# Altium footprint library GE.PcbLib: 21 footprints (part 2 of 2)
Each footprint in its own frame and in the unit in brackets; x right, y up, seen from the top. Pads: shape width x height; smd on the part's side, far side on the other; paste and mask are expansions set on the pad; w line width, h text height; cw(c..) or ccw(c..) is an arc to the next point about the centre after c.
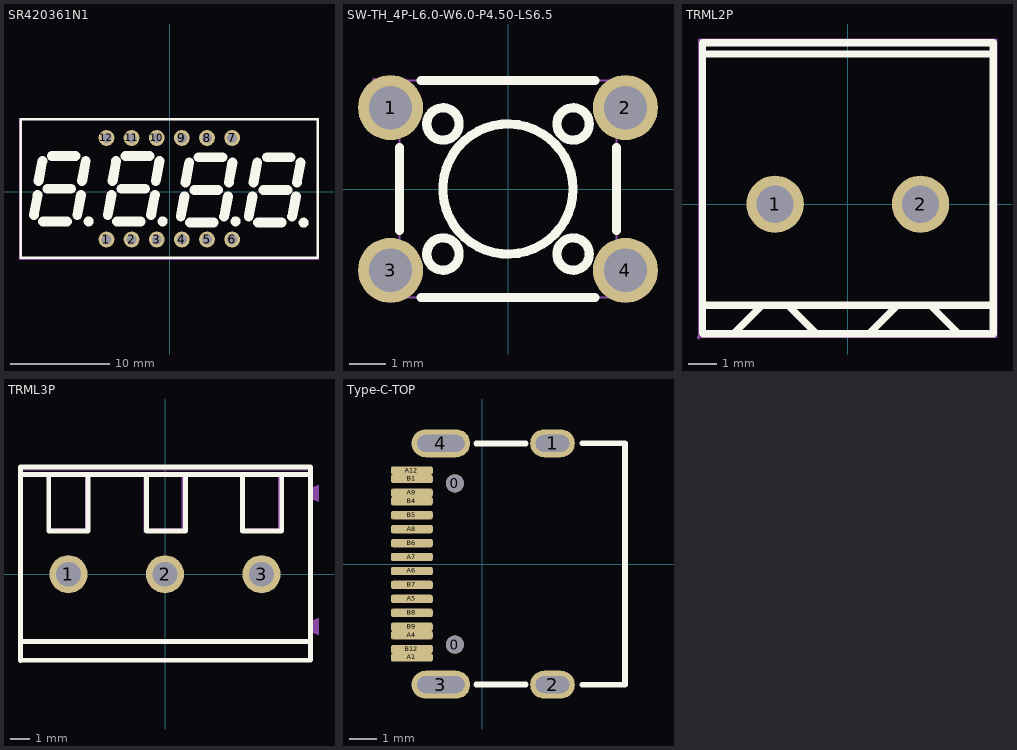
[diagram p1: the footprints below, top view; thin cyan lines are the x and y axes]

## SR420361N1 [mm] "0.36英寸四位红色共阴数码管,方舟电子出品"
height 15
pads (12):
  round 1.6 hole 1: 1(-6.403,-4.801) 2(-3.863,-4.801) 3(-1.323,-4.801) 4(1.217,-4.801) 5(3.757,-4.801) 6(6.297,-4.801) 7(6.297,5.459) 8(3.757,5.459) 9(1.217,5.459) 10(-1.323,5.459) 11(-3.863,5.459) 12(-6.403,5.459)
Top Overlay:
  circle w0.5: c6.646,-2.973 r0.254
  circle w0.5: c-0.72,-2.973 r0.254
  circle w0.5: c-8.197,-2.973 r0.254
  circle w0.5: c13.52,-3.1 r0.254
  lines w0.254: -15.053,-6.671 14.947,-6.671 14.947,7.329 -15.053,7.329 -15.053,-6.671
  lines w1: -13.737,-2.338 -13.356,-0.306 ; -13.261,1.091 -12.88,3.123 ; -12.816,-2.973 -10.403,-2.973 ; -12.372,0.329 -9.959,0.329 ; -11.927,3.631 -9.514,3.631 ; -9.356,-2.338 -8.975,-0.306 ; -8.879,1.091 -8.498,3.123 ; -6.276,-2.338 -5.895,-0.306 ; -5.8,1.091 -5.419,3.123 ; -5.355,-2.973 -2.942,-2.973 ; -4.911,0.329 -2.498,0.329 ; -4.466,3.631 -2.053,3.631 ; -1.894,-2.338 -1.513,-0.306 ; -1.418,1.091 -1.037,3.123 ; 1.106,-2.465 1.487,-0.433 ; 1.582,0.964 1.963,2.996 ; 2.027,-3.1 4.44,-3.1 ; 2.471,0.202 4.884,0.202 ; 2.916,3.504 5.329,3.504 ; 5.487,-2.465 5.868,-0.433 ; 5.964,0.964 6.345,2.996 ; 7.98,-2.465 8.361,-0.433 ; 8.456,0.964 8.837,2.996 ; 8.901,-3.1 11.314,-3.1 ; 9.472,0.202 11.885,0.202 ; 9.79,3.504 12.203,3.504 ; 12.361,-2.465 12.742,-0.433 ; 12.838,0.964 13.219,2.996
Mechanical 15:
  drawing of 17 lines, arcs and shapes, not listed

## SW-TH_4P-L6.0-W6.0-P4.50-LS6.5 [mm]
pads (4):
  round 1.8 hole 1.2: 1(-3.25,2.25) 2(3.25,2.25) 3(-3.25,-2.25) 4(3.25,-2.25)
Top Overlay:
  circle w0.254: c1.8,-1.8 r0.447
  circle w0.254: c-1.8,-1.8 r0.447
  circle w0.254: c-1.8,1.8 r0.447
  circle w0.254: c1.8,1.8 r0.447
  circle w0.254: c0,0 r1.8
  lines w0.254: -3,-1.147 -3,1.147 ; -2.404,-3 2.404,-3 ; -2.404,3 2.404,3 ; 3,-1.147 3,1.147
Mechanical 15:
  region: 3.1,-1.9 3.4,-1.9 3.4,-2.6 3.1,-2.6
  region: 3.1,2.6 3.4,2.6 3.4,1.9 3.1,1.9
  region: -3.4,2.6 -3.1,2.6 -3.1,1.9 -3.4,1.9
  region: -3.4,-1.9 -3.1,-1.9 -3.1,-2.6 -3.4,-2.6
  region: 2.9,-2.6 2.9,-1.9 3.7,-1.9 3.7,-2.6
  region: 2.9,1.9 2.9,2.6 3.7,2.6 3.7,1.9
  region: -2.9,2.6 -2.9,1.9 -3.7,1.9 -3.7,2.6
  region: -2.9,-1.9 -2.9,-2.6 -3.7,-2.6 -3.7,-1.9
  region: -3.64,3 -3.64,3.025 -3.675,3.06 -3.725,3.06 -3.76,3.025 -3.76,3 -3.76,2.975 -3.725,2.94 -3.675,2.94 -3.64,2.975
  lines w0.051: -3,-3 -3,3 3,3 3,-3 -3,-3

## TRML2P [mm] "2P接线端子C8465"
pads (2):
  round 2 hole 1.3: 1(-2.54,0) 2(2.54,0)
Top Overlay:
  lines w0.254: -5.08,-4.52 -5.08,5.64 ; -5.065,5.243 5.08,5.243 ; -5.054,-4.522 5.08,-4.522 5.08,5.638 -5.054,5.638 ; -5.036,-3.531 5.08,-3.531 ; -3.97,-4.5 -3.01,-3.54 ; -2.08,-3.54 -1.12,-4.5 ; 0.75,-4.518 1.71,-3.558 ; 2.9,-3.558 3.86,-4.518
Mechanical 15:
  region: -1.99,0 -1.99,0.109 -2.074,0.312 -2.228,0.466 -2.431,0.55 -2.649,0.55 -2.852,0.466 -3.006,0.312 -3.09,0.109 -3.09,0 -3.09,-0.109 -3.006,-0.312 -2.852,-0.466 -2.649,-0.55 -2.431,-0.55 -2.228,-0.466 -2.074,-0.312 -1.99,-0.109 -1.99,0
  region: 3.09,0 3.09,0.109 3.006,0.312 2.852,0.466 2.649,0.55 2.431,0.55 2.228,0.466 2.074,0.312 1.99,0.109 1.99,0 1.99,-0.109 2.074,-0.312 2.228,-0.466 2.431,-0.55 2.649,-0.55 2.852,-0.466 3.006,-0.312 3.09,-0.109 3.09,0
  region: -5.147,-4.649 -5.147,-4.625 -5.182,-4.59 -5.232,-4.59 -5.267,-4.625 -5.267,-4.649 -5.267,-4.674 -5.232,-4.709 -5.182,-4.709 -5.147,-4.674 -5.147,-4.649
  lines w0.051: -5.207,-4.649 -5.207,5.767 5.207,5.767 5.207,-4.649 -5.207,-4.649

## TRML3P [mm] "3P接线端子直针C72334"
pads (3):
  round 2 hole 1.3: 1(-5.08,0) 2(0,0) 3(5.08,0)
Top Overlay:
  lines w0.254: -7.605,5.243 7.635,5.243 ; -7.594,-4.532 -7.594,5.628 ; -7.594,-4.522 7.646,-4.522 7.646,5.638 -7.594,5.638 ; -7.576,-3.531 7.664,-3.531 ; -6.114,5.245 -6.114,2.275 -4.052,2.275 -4.052,5.245 ; -0.98,5.245 -0.98,2.275 1.082,2.275 1.082,5.245 ; 4.082,5.245 4.082,2.275 6.144,2.275 6.144,5.245
Mechanical 6:
  region: 7.6,-2.5 8.1,-2.3 8.1,-3.2 7.6,-3
  region: 7.6,4.5 8.1,4.7 8.1,3.8 7.6,4
  region: 6.16,5.1 6.16,2.2 5.96,2.2 5.96,5.1
  region: 3.96,5.1 3.96,2.2 4.16,2.2 4.16,5.1
  region: 4.16,2.2 5.96,2.2 5.96,2.4 4.16,2.4
  region: 1.08,5.1 1.08,2.2 0.88,2.2 0.88,5.1
  region: -1.12,5.1 -1.12,2.2 -0.92,2.2 -0.92,5.1
  region: -0.92,2.2 0.88,2.2 0.88,2.4 -0.92,2.4
  region: -6,2.2 -4.2,2.2 -4.2,2.4 -6,2.4
  region: -4,5.1 -4,2.2 -4.2,2.2 -4.2,5.1
  region: -6.2,5.1 -6.2,2.2 -6,2.2 -6,5.1
Mechanical 15:
  region: 5.53,-0.4 4.63,-0.4 4.63,0.4 5.53,0.4
  region: 0.45,-0.4 -0.45,-0.4 -0.45,0.4 0.45,0.4
  region: -4.63,-0.4 -5.53,-0.4 -5.53,0.4 -4.63,0.4
  region: -7.56,-4.5 -7.56,-4.475 -7.595,-4.44 -7.645,-4.44 -7.68,-4.475 -7.68,-4.5 -7.68,-4.525 -7.645,-4.56 -7.595,-4.56 -7.56,-4.525 -7.56,-4.5
  lines w0.051: -7.62,-4.5 7.62,-4.5 7.62,5.5 -7.62,5.5 -7.62,-4.5

## Type-C-TOP [mm]
pads (22):
  round 0.65 hole 0.65: 0(-0.98,-2.89) 0(-0.98,2.89)
  oval 1.6x1 hole 0.6 slot 1.2 at 0 deg: 1(2.52,4.325) 2(2.52,-4.325)
  oval 2.1x1 hole 0.6 slot 1.7 at 0 deg: 3(-1.48,-4.325) 4(-1.48,4.325)
  rrect50% 1.5x0.3 smd: A1(-2.52,-3.35) A4(-2.52,-2.55) A5(-2.52,-1.25) A6(-2.52,-0.25) A7(-2.52,0.25) A8(-2.52,1.25) A9(-2.52,2.55) A12(-2.52,3.35) B1(-2.52,3.05) B4(-2.52,2.25) B5(-2.52,1.75) B6(-2.52,0.75) B7(-2.52,-0.75) B8(-2.52,-1.75) B9(-2.52,-2.25) B12(-2.52,-3.05)
Top Overlay:
  lines w0.203: -0.218,-4.318 1.56,-4.318 ; -0.218,4.318 1.56,4.318 ; 3.592,-4.325 5.12,-4.325 5.12,4.325 3.592,4.325
3D body "1.step": height 3.26, standoff -1, extent -2.568,-4.475 5.182,4.475